# Altium schematic symbol library VJ0603Y471KXBAC.SchLib: 1 symbol
Pins are listed as number, name and electrical type; pins without a type are passive.

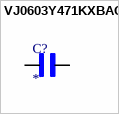
[diagram p0: symbol VJ0603Y471KXBAC]

## VJ0603Y471KXBAC
designator C?
MF: {'manufacturer': u'Vishay Vitramon'}; MP: VJ0603Y471KXBAC; Package: None; Price: None; Value: *; Availability: Unavailable
footprint CAPC1608X97N
pins: 1, 2